# EAGLE library part TEENSY-3.2 (library counter)
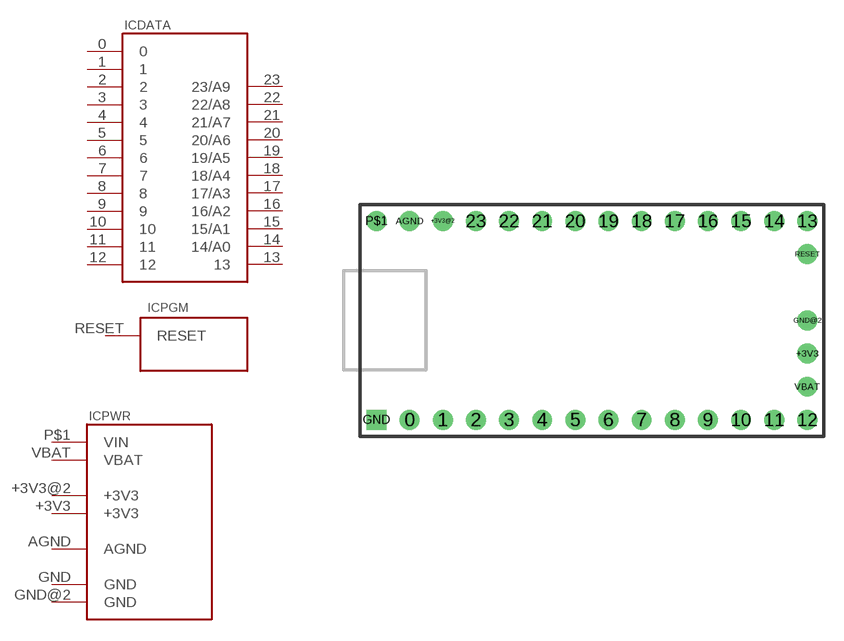
[diagram p2: symbol with the pads of TEENSY-3.2; footprint TEENSY-3.2]

Designator prefix IC; gates DATA=TEENSY-3.2-DATA PGM=TEENSY-3.2-PGM PWR=TEENSY-3.2-PWR

## TEENSY-3.2  [TEENSY-3.2]
0  DATA:0
1  DATA:1
2  DATA:2
3  DATA:3
4  DATA:4
5  DATA:5
6  DATA:6
7  DATA:7
8  DATA:8
9  DATA:9
10  DATA:10
11  DATA:11
12  DATA:12
13  DATA:13
14  DATA:14/A0
15  DATA:15/A1
16  DATA:16/A2
17  DATA:17/A3
18  DATA:18/A4
19  DATA:19/A5
20  DATA:20/A6
21  DATA:21/A7
22  DATA:22/A8
23  DATA:23/A9
+3V3  PWR:+3V3
+3V3@2  PWR:+3V3
AGND  PWR:AGND
GND  PWR:GND
GND@2  PWR:GND
P$1  PWR:VIN
RESET  PGM:RESET
VBAT  PWR:VBAT

## Footprint TEENSY-3.2 (pad centres in mm)
drill 1.016 round: 0 3.81,-7.62; 1 6.35,-7.62; 2 8.89,-7.62; 3 11.43,-7.62; 4 13.97,-7.62; 5 16.51,-7.62; 6 19.05,-7.62; 7 21.59,-7.62; 8 24.13,-7.62; 9 26.67,-7.62; 10 29.21,-7.62; 11 31.75,-7.62; 12 34.29,-7.62; 13 34.29,7.62; 14 31.75,7.62; 15 29.21,7.62; 16 26.67,7.62; 17 24.13,7.62; 18 21.59,7.62; 19 19.05,7.62; 20 16.51,7.62; 21 13.97,7.62; 22 11.43,7.62; 23 8.89,7.62; +3V3 34.29,-2.54; +3V3@2 6.35,7.62; AGND 3.81,7.62; GND@2 34.29,0; P$1 1.27,7.62; RESET 34.29,5.08; VBAT 34.29,-5.08
drill 1.016 square: GND 1.27,-7.62